# EAGLE library part 632723130112 (library Wurth_Connectors_WR-USB)
WR-COM USB 3.1 Type C Receptacle Horizontal Mid-Mount THR / SMT 1.6 mm Kind Properties Durability:10 000 Mating cycles Gender:Receptacle Type:Horizontal General Information Operating Temperature:-40up to +105 °C Electrical Properties Working Voltage:20V (DC) Withstanding Voltage:100V (AC) Contact Resistance:40 mΩ Material Properties Insulator Material:LCP Insulator Flammability Rating:UL94 V-0 Color:Black Contact Material:Copper Alloy Contact Plating:Gold over Nickel Contact Type:Stamped Shielding Material:Stainless Steel Shielding Plating:Nickel <https://www.we-online.com/catalog/media/o142611v209%20Family_WR-USB31_632723130112.jpg> Details see: hhttps://www.we-online.com/catalog/en/COM_3_1_THR_SMT_TYPE_C_RECEPTACLE_HORIZONTAL_1_6MM/ Updated by Ella Wu 2021-09-28 2021 (C) Würth Elektronik
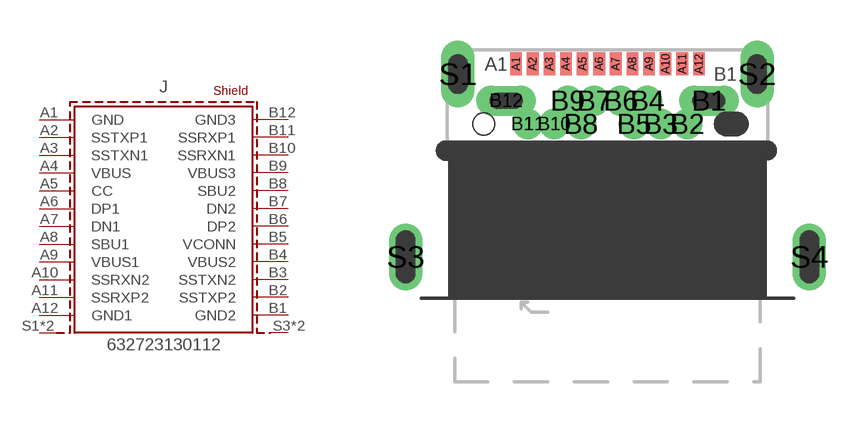
[diagram p24: symbol with the pads of 632723130112; footprint 632723130112]

Designator prefix J

## 632723130112 (APPLICATION: USB 3.1; DATASHEET-URL: https://www.we-online.com/redexpert/spec/632723130112?ae; GERDER: Receptacle; INTERFACE-TYPE: Type C; IR: 5A; MOUNT: THR; PACKAGING: Tape and Reel; PART-NUMBER: 632723130112; PINS: 24; TYPE: Horizontal; VALUE: 632723130112; WORKING-VOLTAGE: 20V(DC))  [632723130112]
A1  GND  pas
A2  SSTXP1  pas
A3  SSTXN1  pas
A4  VBUS  pas
A5  CC  pas
A6  DP1  pas
A7  DN1  pas
A8  SBU1  pas
A9  VBUS1  pas
A10  SSRXN2  pas
A11  SSRXP2  pas
A12  GND1  pas
B1  GND2  pas
B2  SSTXP2  pas
B3  SSTXN2  pas
B4  VBUS2  pas
B5  VCONN  pas
B6  DP2  pas
B7  DN2  pas
B8  SBU2  pas
B9  VBUS3  pas
B10  SSRXN1  pas
B11  SSRXP1  pas
B12  GND3  pas
S1  SHIELD  pas
S2  SHIELD  pas
S3  SHIELD1  pas
S4  SHIELD1  pas

## Footprint 632723130112 (pad centres in mm)
WR-COM USB 3.1 Type C Receptacle Horizontal Mid-Mount THR / SMT 1.6 mm
smd 0.35 x 0.7: A1 -2.75,4.575; A2 -2.25,4.575; A3 -1.75,4.575; A4 -1.25,4.575; A5 -0.75,4.575; A6 -0.25,4.575; A7 0.25,4.575; A8 0.75,4.575; A9 1.25,4.575; A10 1.75,4.575; A11 2.25,4.575; A12 2.75,4.575
drill 0.4 pad 0.4 long: B1 3.05,3.465; B12 -3.05,3.465
drill 0.4 pad 0.65: B2 2.4,2.765; B3 1.6,2.765; B4 1.2,3.465; B5 0.8,2.765; B6 0.4,3.465; B7 -0.4,3.465; B8 -0.8,2.765; B9 -1.2,3.465; B10 -1.6,2.765; B11 -2.4,2.765
drill 0.5 pad 0.6 long: S1 -4.5,4.265; S2 4.5,4.265
drill 0.5 pad 1 long: S3 -6.075,-1.235; S4 6.075,-1.235
hole 0.65 at -3.725,2.765
hole 0.65 at 3.725,2.765